# EAGLE library part MAX3223E (library MAX3223E)
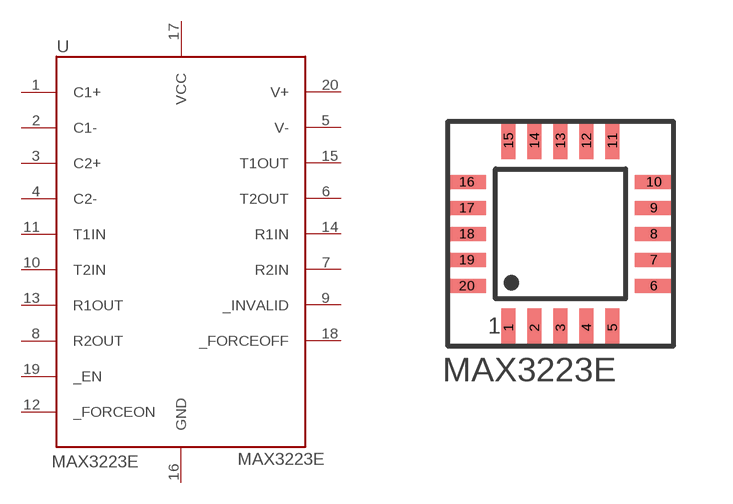
[diagram p0: symbol with the pads of MAX3223E; footprint MAX3223E]

Designator prefix -

## MAX3223E  [MAX3223E]
1  C1+  pas
2  C1-  pas
3  C2+  pas
4  C2-  pas
5  V-  pas
6  T2OUT  out
7  R2IN  in
8  R2OUT  out
9  _INVALID  nc
10  T2IN  in
11  T1IN  in
12  _FORCEON  pwr
13  R1OUT  out
14  R1IN  in
15  T1OUT  out
16  GND  pwr
17  VCC  pwr
18  _FORCEOFF  pwr
19  _EN  in
20  V+  pas

## Footprint MAX3223E (pad centres in mm)
smd 0.35 x 0.95: 1 -1.3,-2.34; 2 -0.65,-2.34; 3 0,-2.34; 4 0.65,-2.34; 5 1.3,-2.34; 11 1.3,2.34; 12 0.65,2.34; 13 0,2.34; 14 -0.65,2.34; 15 -1.3,2.34
smd 0.95 x 0.35: 6 2.34,-1.3; 7 2.34,-0.65; 8 2.34,0; 9 2.34,0.65; 10 2.34,1.3; 16 -2.34,1.3; 17 -2.34,0.65; 18 -2.34,0; 19 -2.34,-0.65; 20 -2.34,-1.3